# EAGLE library part PCA9306_DIP (library systas0)
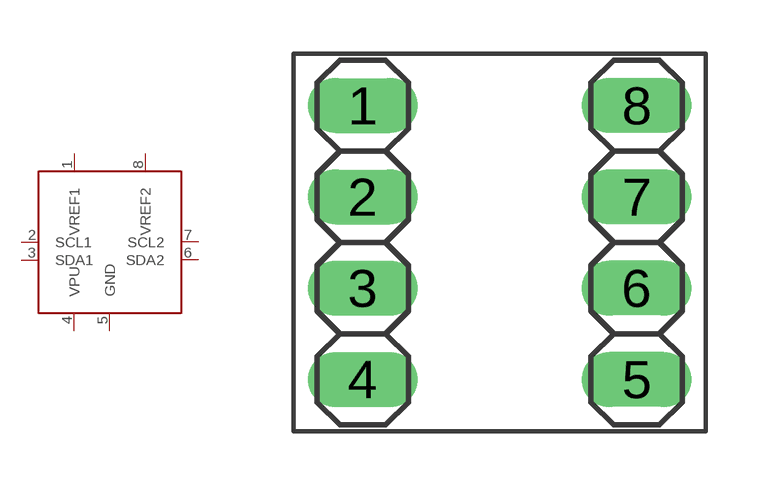
[diagram p13: symbol with the pads of PCA9306_DIP; footprint PCA9306_DIP]

Designator prefix -

## PCA9306_DIP  [PCA9306_DIP]
1  VREF1
2  SCL1
3  SDA1
4  VPU
5  GND
6  SDA2
7  SCL2
8  VREF2

## Footprint PCA9306_DIP (pad centres in mm)
drill 1.016 long: 1 -3.81,3.81; 2 -3.81,1.27; 3 -3.81,-1.27; 4 -3.81,-3.81; 5 3.81,-3.81; 6 3.81,-1.27; 7 3.81,1.27; 8 3.81,3.81